# Altium schematic symbol library Schlib1.SchLib: 1 symbol
Pins are listed as number, name and electrical type; pins without a type are passive.

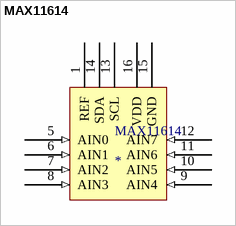
[diagram p0: symbol MAX11614]

## MAX11614
designator MAX11614
footprint QSOP [E16+1] (SOP, 16-Leads, Body 5.0x4.0mm (max), Pitch 0.63mm, IPC Medium Density)
pins: 1 REF, 2 NC (hiz) hidden, 3 NC hidden, 4 NC hidden, 5 AIN0 (in), 6 AIN1 (in), 7 AIN2 (in), 8 AIN3 (in), 9 AIN4 (in), 10 AIN5 (in), 11 AIN6 (in), 12 AIN7 (in), 13 SCL, 14 SDA, 15 GND (power), 16 VDD (power)